# Altium footprint library IRRecive.PcbLib: 1 footprints
Each footprint in its own frame and in the unit in brackets; x right, y up, seen from the top. Pads: shape width x height; smd on the part's side, far side on the other; paste and mask are expansions set on the pad; w line width, h text height; cw(c..) or ccw(c..) is an arc to the next point about the centre after c.
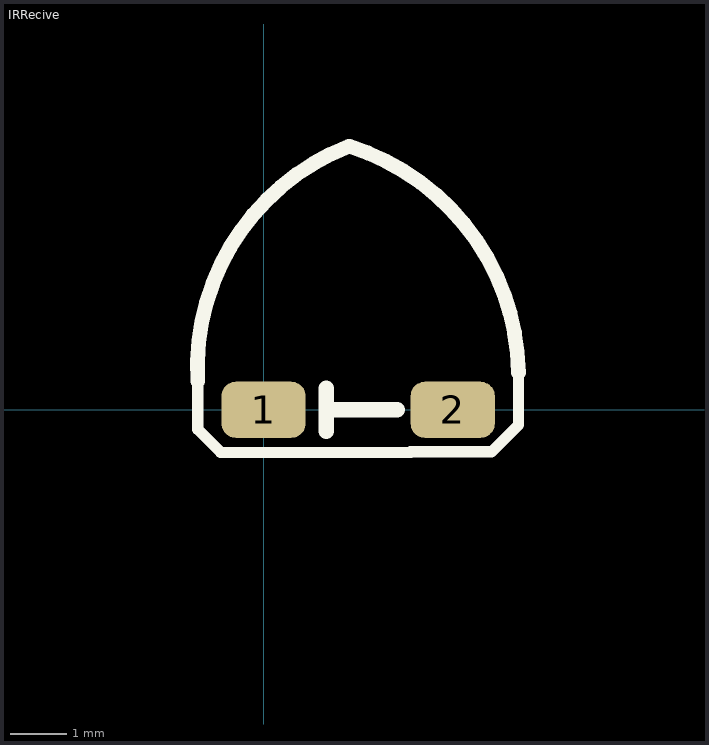
[diagram p0: the footprint, top view; thin cyan lines are the x and y axes]

## IRRecive [mm]
pads (2):
  rrect50% 1.5x1 smd: 1(0,0) 2(3.373,0)
Top Overlay:
  lines w0.2: -1.171,0.508 -1.171,-0.353 -0.762,-0.762 2.623,-0.762 ; 2.623,-0.75 4.064,-0.75 4.544,-0.27 4.544,0.663
  lines w0.262: -1.171,0.508 cw(c3.053,0.754) 1.524,4.699 cw(c0.242,0.592) 4.544,0.663
  lines w0.278: 1.115,-0.381 1.115,0.381 ; 1.115,0 2.385,0